# EAGLE library part TEXAS_INSTRUMENTS-LEVEL_SHIFTER-CD40109B-Q1_NS_16 (library Module_Gates)
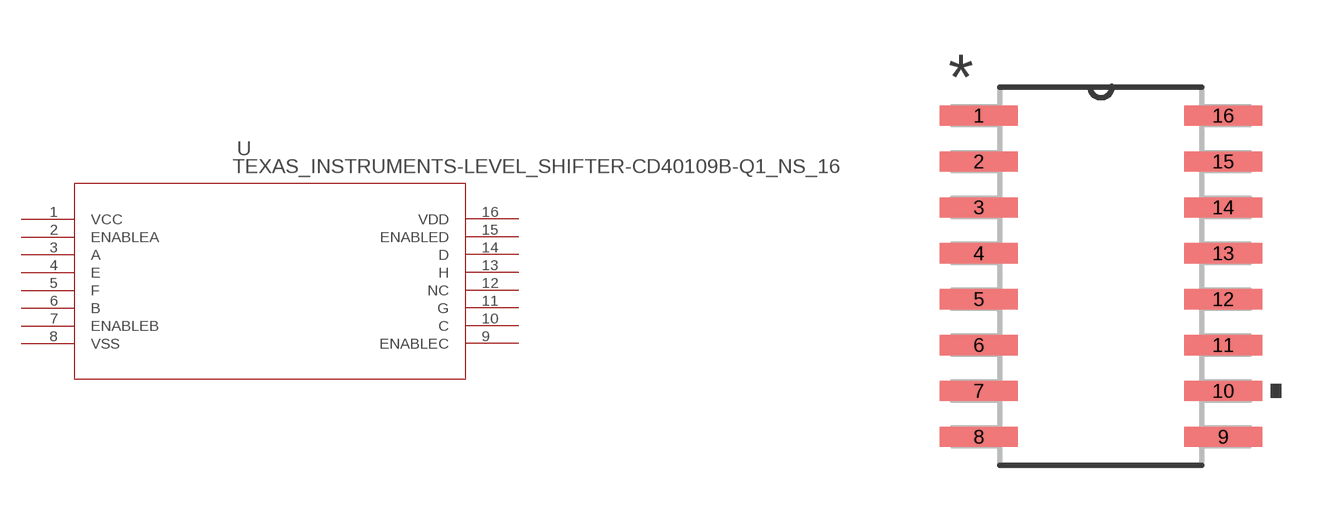
[diagram p3: symbol with the pads of TEXAS_INSTRUMENTS-LEVEL_SHIFTER-CD40109B-Q1_NS_16; footprint TEXAS_INSTRUMENTS-LEVEL_SHIFTER-CD40109B-Q1_NS_16]

Designator prefix U

## TEXAS_INSTRUMENTS-LEVEL_SHIFTER-CD40109B-Q1_NS_16 (DATASHEETURL: httpwww.ti.comlitgpnCD40109BQ1; FAMILY_NAME: DIRECTION CONTROL DUAL SUPPLY TRANSLATOR; GENERIC_PART_NUMBER: CD40109BQ1; INDUSTRY_STD_PKG_TYPE: SO; MANUFACTURER: Texas Instruments; PACKAGE_DESIGNATOR: NS; PIN_COUNT: 16)  [TEXAS_INSTRUMENTS-LEVEL_SHIFTER-CD40109B-Q1_NS_16]
1  VCC  pwr
2  ENABLEA  in
3  A  in
4  E  out
5  F  out
6  B  in
7  ENABLEB  in
8  VSS  pwr
9  ENABLEC  in
10  C  in
11  G  out
12  NC  nc
13  H  out
14  D  in
15  ENABLED  in
16  VDD  pwr

## Footprint TEXAS_INSTRUMENTS-LEVEL_SHIFTER-CD40109B-Q1_NS_16 (pad centres in mm)
smd 2.159 x 0.559: 1 -3.378,4.445; 2 -3.378,3.175; 3 -3.378,1.905; 4 -3.378,0.635; 5 -3.378,-0.635; 6 -3.378,-1.905; 7 -3.378,-3.175; 8 -3.378,-4.445; 9 3.378,-4.445; 10 3.378,-3.175; 11 3.378,-1.905; 12 3.378,-0.635; 13 3.378,0.635; 14 3.378,1.905; 15 3.378,3.175; 16 3.378,4.445